# EAGLE library part TPS2043 (library 000001)
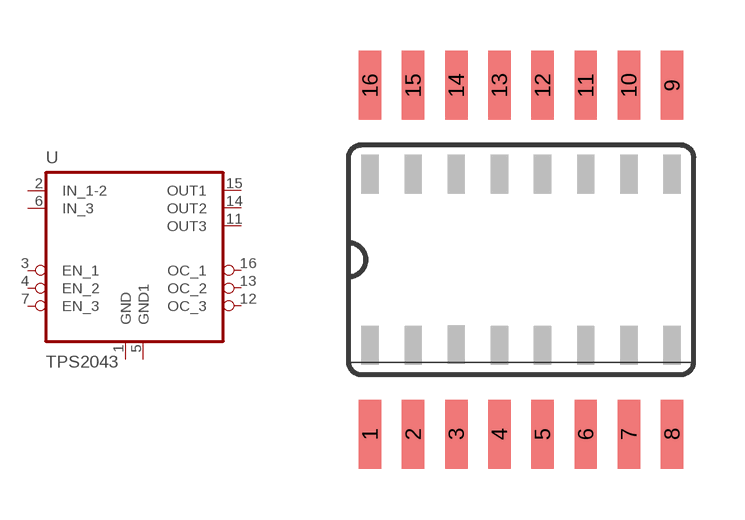
[diagram p134: symbol with the pads of SO16; footprint SO16]

Designator prefix -

## TPS2043B  [SO16]
1  GND  pwr
2  IN_1-2  pwr
3  EN_1  in
4  EN_2  in
5  GND1  pwr
6  IN_3  pwr
7  EN_3  in
11  OUT3  pwr
12  OC_3  out
13  OC_2  out
14  OUT2  pwr
15  OUT1  pwr
16  OC_1  out

## Footprint SO16 (pad centres in mm)
Small Outline Package .150 SIOC Source: http://www.maxim-ic.com/package_drawings/21-0041B.pdf
smd 0.66 x 2.032: 1 -4.445,-5.137; 2 -3.175,-5.137; 3 -1.905,-5.137; 4 -0.635,-5.137; 5 0.635,-5.137; 6 1.905,-5.137; 7 3.175,-5.137; 8 4.445,-5.137; 9 4.445,5.137; 10 3.175,5.137; 11 1.905,5.137; 12 0.635,5.137; 13 -0.635,5.137; 14 -1.905,5.137; 15 -3.175,5.137; 16 -4.445,5.137